# EAGLE library part BY25Q16BS (library Signetics)
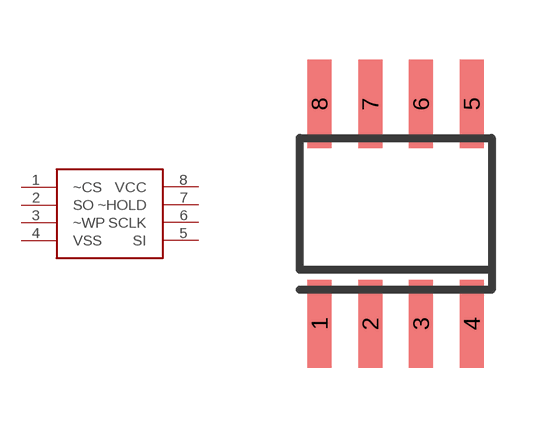
[diagram p7: symbol with the pads of SO08; footprint SO08]

Designator prefix -

## BY25Q16BS  [SO08]
1  ~CS
2  SO
3  ~WP
4  VSS
5  SI
6  SCLK
7  ~HOLD
8  VCC

## Footprint SO08 (pad centres in mm)
Small Outline Package 8 NS Package M08A
smd 0.6 x 2.2: 1 -1.905,-2.75; 2 -0.635,-2.75; 3 0.635,-2.75; 4 1.905,-2.75; 5 1.905,2.75; 6 0.635,2.75; 7 -0.635,2.75; 8 -1.905,2.75